# Altium schematic symbol library Gravix-crystal.SchLib: 2 symbols
Pins are listed as number, name and electrical type; pins without a type are passive.

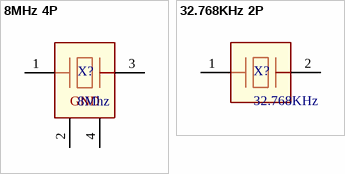
[diagram p0: symbols 8MHz 4P to 32.768KHz 2P]

## 8MHz 4P
designator X?, comment 8Mhz
Crystal 8MHz ±10ppm 12pF 40Ω SMD3225-4P; Manufacturer: huaxindianzi; Manufacturer Part Number: CF4008M00012001; LCSC Part Number: C7294546; Package: SMD3225-4P; ComponentLink1Description: Digikey Link; ComponentLink2Description: LCSC Link; ComponentLink2URL: https://www.lcsc.com/product-detail/C7294546.html?spm=wm.fly.bg.0.xh___wm.sxq.dhl.mly.12-1-1&lcsc_vid=QlAIX1RQQQJfX1VRTwcNAQJXTlRaUQBVEQBYAwJfFFcxVlNRQFhYU1xWRFVdXztW; Mounting Type: SMD
footprint 8MHz_SMD3225-4P
pins: 1, 2 GND, 3, 4 GND

## 32.768KHz 2P
designator X?, comment 32.768KHz
Crystal 32.768kHz ±20ppm 12.5pF SMD2012-2P; Manufacturer: KYX; Manufacturer Part Number: K2A32768125202; LCSC Part Number: C19076730; Package: SMD2012-2P; ComponentLink1Description: Digikey Link; ComponentLink2Description: LCSC Link; ComponentLink2URL: https://www.lcsc.com/product-detail/C19076730.html?spm=wm.fly.bg.2.xh___wm.sxq.dhl.mly.12-1-1&lcsc_vid=QlAIX1RQQQJfX1VRTwcNAQJXTlRaUQBVEQBYAwJfFFcxVlNRQFhYU1xWRFVdXztW; Mounting Type: SMD
footprint 32.768KHz_SMD2012-2P
pins: 1, 2 GND